# EAGLE library part FAB32 (library con-vg)
CONNECTOR female, 32 pins, block, type B, row A, grid 2.54 mm
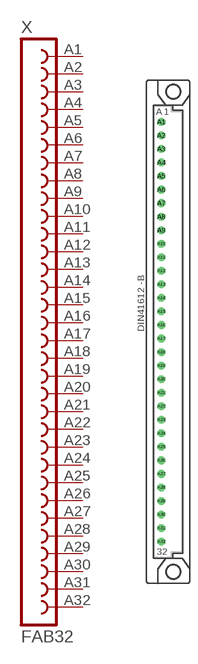
[diagram p63: symbol with the pads of FAB32; footprint FAB32]

Designator prefix X

## FAB32  [FAB32]
A1  1  pas
A2  2  pas
A3  3  pas
A4  4  pas
A5  5  pas
A6  6  pas
A7  7  pas
A8  8  pas
A9  9  pas
A10  10  pas
A11  11  pas
A12  12  pas
A13  13  pas
A14  14  pas
A15  15  pas
A16  16  pas
A17  17  pas
A18  18  pas
A19  19  pas
A20  20  pas
A21  21  pas
A22  22  pas
A23  23  pas
A24  24  pas
A25  25  pas
A26  26  pas
A27  27  pas
A28  28  pas
A29  29  pas
A30  30  pas
A31  31  pas
A32  32  pas

## Footprint FAB32 (pad centres in mm)
CONNECTOR female, 32 pins, type B, row A, grid 2.54 mm
drill 0.914 octagon: A1 -1.27,39.37; A2 -1.27,36.83; A3 -1.27,34.29; A4 -1.27,31.75; A5 -1.27,29.21; A6 -1.27,26.67; A7 -1.27,24.13; A8 -1.27,21.59; A9 -1.27,19.05; A10 -1.27,16.51; A11 -1.27,13.97; A12 -1.27,11.43; A13 -1.27,8.89; A14 -1.27,6.35; A15 -1.27,3.81; A16 -1.27,1.27; A17 -1.27,-1.27; A18 -1.27,-3.81; A19 -1.27,-6.35; A20 -1.27,-8.89; A21 -1.27,-11.43; A22 -1.27,-13.97; A23 -1.27,-16.51; A24 -1.27,-19.05; A25 -1.27,-21.59; A26 -1.27,-24.13; A27 -1.27,-26.67; A28 -1.27,-29.21; A29 -1.27,-31.75; A30 -1.27,-34.29; A31 -1.27,-36.83; A32 -1.27,-39.37
hole 2.794 at 0.965,-45.009
hole 2.794 at 0.965,45.009